# Altium schematic symbol library SDR08540M3-01.Schlib: 1 symbol
Pins are listed as number, name and electrical type; pins without a type are passive.

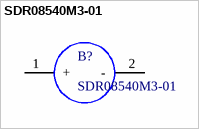
[diagram p0: symbol SDR08540M3-01]

## SDR08540M3-01
designator B?
Speakers & Transducers 88dB 85mA 3volts 2670Hz
pins: 1 +, 2 -